# Altium schematic symbol library 6.0 - FPC连接器.SchLib: 18 symbols
Pins are listed as number, name and electrical type; pins without a type are passive.

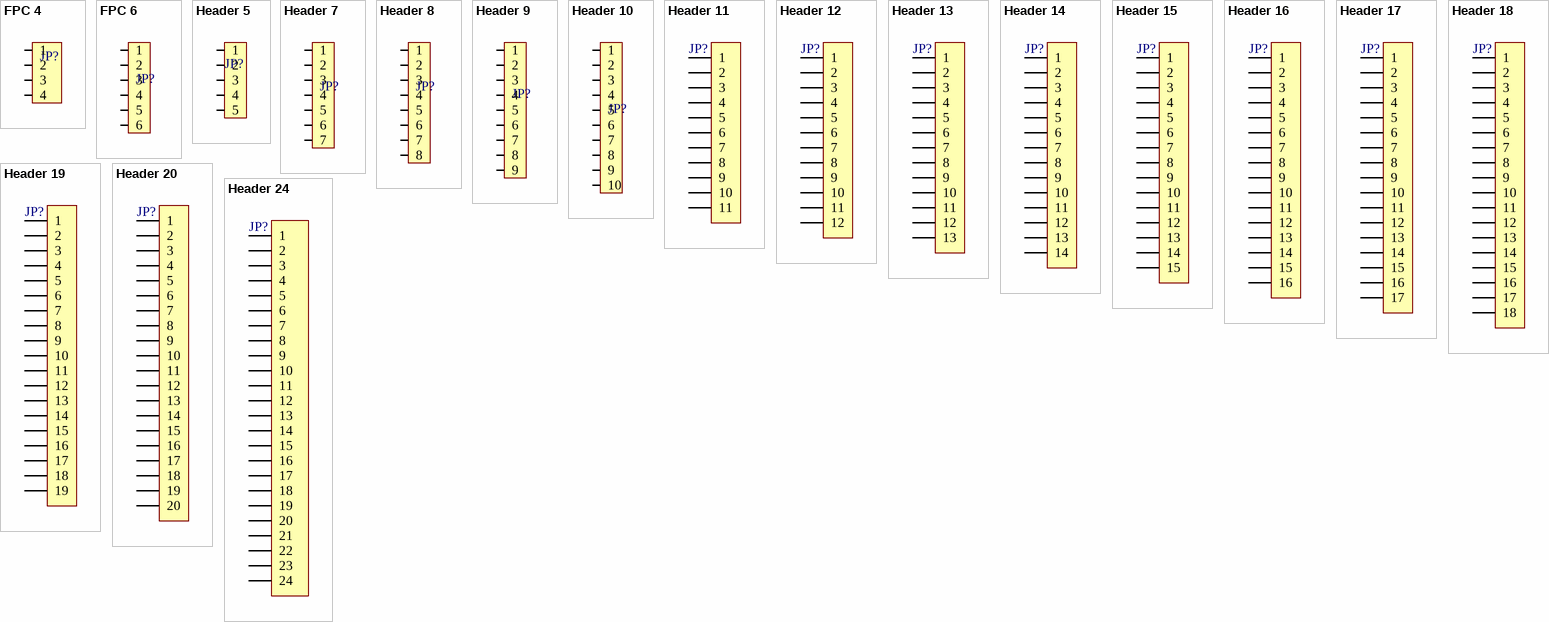
[diagram p0: symbols FPC 4 to Header 24]

## FPC 4
designator JP?, comment FPC-4  (value not drawn)
FPC-SMD, 4PIN; 封装库来自淘宝卖家 ID：黄晶宝石: 其他店铺购入均为盗版，不享受售后技术支持服务，请立即申请退款
footprint FPC0.5 2H-WS-4P (长：6.2mm，宽：5.2mm，高：2mm)
footprint FPC1.0-2H-WS-4P (翻盖FPC，脚距1mm，不含脚（长8.9mm，宽5.2mm，高1.96mm）)
footprint FPC1.25A-LI-4P (4脚，长：8.5mm，宽：4.5mm，高：7.3mm)
pins: 1, 2, 3, 4

## FPC 6
designator JP?, comment FPC-6  (value not drawn)
FPC-SMD, 6PIN; 封装库来自淘宝卖家 ID：黄晶宝石: https://shop463601444.taobao.com
footprint FPC0.5 2H-WS-6P (长：7.2mm，宽：5.2mm，高：2mm)
footprint FPC1.0-2H-WS-6P (翻盖FPC，脚距1mm，不含脚（长10.9mm，宽5.2mm，高1.96mm）)
footprint FPC1.25A-LI-6P (6脚，长：11mm，宽：4.5mm，高：7.3mm)
pins: 1, 2, 3, 4, 5, 6

## Header 5
designator JP?, comment HDR-1X5  (value not drawn)
5P接插件; 封装库来自淘宝卖家 ID：黄晶宝石: https://shop463601444.taobao.com
footprint PH2.0-WI-5P (接插件/1A)
footprint PH2.0-LI-5P (接插件/1A)
footprint PH2.0-WS-5P (长：14mm，宽：7.6mm，高：5.5mm)
footprint PH2.0-LS-5P (长：14mm，宽：5.5mm，高：6.1mm)
footprint HDR2.0-LI-5P (直插，脚距：2.0mm)
footprint HDR2.0-M-LI-5P (直插排母，脚距：2.0mm)
pins: 1, 2, 3, 4, 5

## Header 7
designator JP?, comment HDR-1X7  (value not drawn)
7P接插件; 封装库来自淘宝卖家 ID：黄晶宝石: 其他店铺购入均为盗版，不享受售后技术支持服务，请立即申请退款
footprint PH2.0-WI-7P (接插件/1A)
footprint PH2.0-LI-7P (接插件/1A)
footprint PH2.0-WS-7P (长：18mm，宽：7.6mm，高：5.5mm)
footprint PH2.0-LS-7P (长：18mm，宽：5.5mm，高：6.1mm)
footprint HDR2.0-LI-7P (直插，脚距：2.0mm)
footprint HDR2.0-M-LI-7P (直插排母，脚距：2.0mm)
pins: 1, 2, 3, 4, 5, 6, 7

## Header 8
designator JP?, comment HDR-1X8  (value not drawn)
8P接插件; 封装库来自淘宝卖家 ID：黄晶宝石: 其他店铺购入均为盗版，不享受售后技术支持服务，请立即申请退款
footprint PH2.0-WI-8P (接插件/1A)
footprint PH2.0-LI-8P (接插件/1A)
footprint PH2.0-WS-8P (长：20mm，宽：7.6mm，高：5.5mm)
footprint PH2.0-LS-8P (长：20mm，宽：5.5mm，高：6.1mm)
footprint HDR2.0-LI-8P (直插，脚距：2.0mm)
footprint HDR2.0-M-LI-8P (直插排母，脚距：2.0mm)
pins: 1, 2, 3, 4, 5, 6, 7, 8

## Header 9
designator JP?, comment HDR-1X9  (value not drawn)
9P接插件; 封装库来自淘宝卖家 ID：黄晶宝石: 唯一出售店铺网址
footprint PH2.0-WI-9P (接插件/1A)
footprint PH2.0-LI-9P (接插件/1A)
footprint PH2.0-WS-9P (长：22mm，宽：7.6mm，高：5.5mm)
footprint PH2.0-LS-9P (长：22mm，宽：5.5mm，高：6.1mm)
pins: 1, 2, 3, 4, 5, 6, 7, 8, 9

## Header 10
designator JP?, comment HDR-1X10  (value not drawn)
10P接插件; 封装库来自淘宝卖家 ID：黄晶宝石: 唯一出售店铺网址
footprint PH2.0-WI-10P (接插件/1A)
footprint PH2.0-LI-10P (接插件/1A)
footprint PH2.0-WS-10P (长：24mm，宽：7.6mm，高：5.5mm)
footprint PH2.0-LS-10P (长：24mm，宽：5.5mm，高：6.1mm)
pins: 1, 2, 3, 4, 5, 6, 7, 8, 9, 10

## Header 11
designator JP?, comment HDR-1X11  (value not drawn)
11P接插件; 封装库来自淘宝卖家 ID：黄晶宝石: 其他店铺购入均为盗版假冒封装库; BOM名称: 11P接插件
footprint PH2.0-WI-11P (接插件/1A)
footprint PH2.0-LI-11P (接插件/1A)
footprint PH2.0-WS-11P (长：26mm，宽：7.6mm，高：5.5mm)
footprint PH2.0-LS-11P (长：26mm，宽：5.5mm，高：6.1mm)
pins: 1, 2, 3, 4, 5, 6, 7, 8, 9, 10, 11

## Header 12
designator JP?, comment HDR-1X12  (value not drawn)
12P接插件; 封装库来自淘宝卖家 ID：黄晶宝石: 其他店铺购入均为盗版假冒封装库; BOM名称: 12P接插件
footprint PH2.0-WI-12P (长：25.9mm，宽：6mm，高：4.7mm)
footprint PH2.0-LI-12P (长：23.9mm，宽：4.7mm，高：6mm)
footprint PH2.0-WS-12P (长：28mm，宽：7.6mm，高：5.5mm)
footprint PH2.0-LS-12P (长：28mm，宽：5.5mm，高：6.1mm)
pins: 1, 2, 3, 4, 5, 6, 7, 8, 9, 10, 11, 12

## Header 13
designator JP?, comment HDR-1X13  (value not drawn)
13P接插件; 封装库来自淘宝卖家 ID：黄晶宝石: 其他店铺购入均为盗版假冒封装库; BOM名称: 13P接插件
footprint PH2.0-WS-13P (长：30mm，宽：7.6mm，高：5.5mm)
footprint PH2.0-LS-13P (长：30mm，宽：5.5mm，高：6.1mm)
footprint PH2.0-LI-13P (长：25.9mm，宽：4.7mm，高：6mm)
footprint PH2.0-LI-13P (长：25.9mm，宽：4.7mm，高：6mm)
pins: 1, 2, 3, 4, 5, 6, 7, 8, 9, 10, 11, 12, 13

## Header 14
designator JP?, comment HDR-1X14  (value not drawn)
14P接插件; 封装库来自淘宝卖家 ID：黄晶宝石: 其他店铺购入均为盗版假冒封装库; BOM名称: 14P接插件
footprint PH2.0-WS-14P (长：32mm，宽：7.6mm，高：5.5mm)
footprint PH2.0-LS-14P (长：32mm，宽：5.5mm，高：6.1mm)
footprint PH2.0-LI-14P (长：27.9mm，宽：4.7mm，高：6mm)
footprint PH2.0-LI-14P (长：27.9mm，宽：4.7mm，高：6mm)
pins: 1, 2, 3, 4, 5, 6, 7, 8, 9, 10, 11, 12, 13, 14

## Header 15
designator JP?, comment HDR-1X15  (value not drawn)
15P接插件; 封装库来自淘宝卖家 ID：黄晶宝石: 其他店铺购入均为盗版假冒封装库; BOM名称: 15P接插件
footprint PH2.0-WS-15P (长：34mm，宽：7.6mm，高：5.5mm)
footprint PH2.0-LS-15P (长：34mm，宽：5.5mm，高：6.1mm)
footprint PH2.0-LI-15P (长：27.9mm，宽：4.7mm，高：6mm)
footprint PH2.0-LI-15P (长：27.9mm，宽：4.7mm，高：6mm)
pins: 1, 2, 3, 4, 5, 6, 7, 8, 9, 10, 11, 12, 13, 14, 15

## Header 16
designator JP?, comment HDR-1X16  (value not drawn)
16P接插件; BOM名称: 16P接插件; 封装库来自淘宝卖家 ID：黄晶宝石: https://shop463601444.taobao.com
footprint PH2.0-WS-16P (长：36mm，宽：7.6mm，高：5.5mm)
footprint PH2.0-LS-16P (长：36mm，宽：5.5mm，高：6.1mm)
footprint PH2.0-LI-16P (长：29.9mm，宽：4.7mm，高：6mm)
footprint PH2.0-LI-16P (长：29.9mm，宽：4.7mm，高：6mm)
pins: 1, 2, 3, 4, 5, 6, 7, 8, 9, 10, 11, 12, 13, 14, 15, 16

## Header 17
designator JP?, comment HDR-1X17  (value not drawn)
17P接插件; 封装库来自淘宝卖家 ID：黄晶宝石: 技术支持，联系售后
footprint PH2.0-WS-17P (长：38mm，宽：7.6mm，高：5.5mm)
pins: 1, 2, 3, 4, 5, 6, 7, 8, 9, 10, 11, 12, 13, 14, 15, 16, 17

## Header 18
designator JP?, comment HDR-1X18  (value not drawn)
18P接插件; 封装库来自淘宝卖家 ID：黄晶宝石: https://shop463601444.taobao.com
footprint PH2.0-WS-18P (长：40mm，宽：7.6mm，高：5.5mm)
pins: 1, 2, 3, 4, 5, 6, 7, 8, 9, 10, 11, 12, 13, 14, 15, 16, 17, 18

## Header 19
designator JP?, comment HDR-1X19  (value not drawn)
19P接插件; 封装库来自淘宝卖家 ID：黄晶宝石: 其他店铺购入均为盗版假冒封装库
footprint PH2.0-WS-19P (长：42mm，宽：7.6mm，高：5.5mm)
pins: 1, 2, 3, 4, 5, 6, 7, 8, 9, 10, 11, 12, 13, 14, 15, 16, 17, 18, 19

## Header 20
designator JP?, comment HDR-1X20  (value not drawn)
20P接插件; 封装库来自淘宝卖家 ID：黄晶宝石: https://shop463601444.taobao.com
footprint PH2.0-WS-20P (长：44mm，宽：7.6mm，高：5.5mm)
pins: 1, 2, 3, 4, 5, 6, 7, 8, 9, 10, 11, 12, 13, 14, 15, 16, 17, 18, 19, 20

## Header 24
designator JP?, comment HDR-1X20  (value not drawn)
24P接插件; 封装库来自淘宝卖家 ID：黄晶宝石: https://shop463601444.taobao.com
footprint 201U1X24
pins: 1, 2, 3, 4, 5, 6, 7, 8, 9, 10, 11, 12, 13, 14, 15, 16, 17, 18, 19, 20, 21, 22, 23, 24